# EAGLE library part STP08DP05 (library Lectrobox)
STP08DP05 Constant-Current LED Sink Driver, 20ma Max Continuous
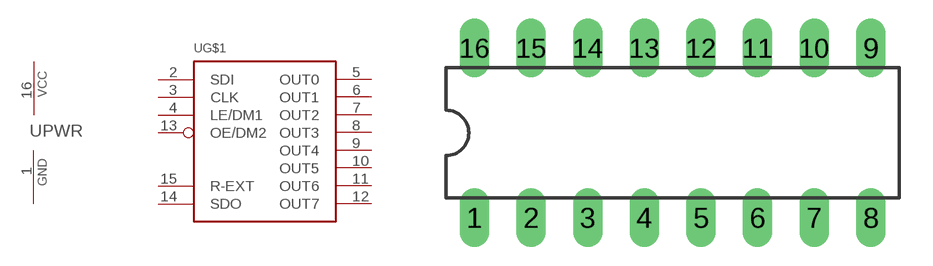
[diagram p1: symbol with the pads of DIL16; footprint DIL16]

Designator prefix -; gates G$1=STP08DP05 PWR=PWRN

## STP08DP05  [DIL16]
1  PWR:GND  pwr
2  G$1:SDI  in
3  G$1:CLK  in
4  G$1:LE/DM1  in
5  G$1:OUT0  in
6  G$1:OUT1  in
7  G$1:OUT2  in
8  G$1:OUT3  in
9  G$1:OUT4  in
10  G$1:OUT5  in
11  G$1:OUT6  in
12  G$1:OUT7  in
13  G$1:OE/DM2  in
14  G$1:SDO  out
15  G$1:R-EXT  out
16  PWR:VCC  pwr

## Footprint DIL16 (pad centres in mm)
drill 0.813 long: 1 -8.89,-3.81; 2 -6.35,-3.81; 3 -3.81,-3.81; 4 -1.27,-3.81; 5 1.27,-3.81; 6 3.81,-3.81; 7 6.35,-3.81; 8 8.89,-3.81; 9 8.89,3.81; 10 6.35,3.81; 11 3.81,3.81; 12 1.27,3.81; 13 -1.27,3.81; 14 -3.81,3.81; 15 -6.35,3.81; 16 -8.89,3.81